# Altium integrated library ST RF Amplifier.IntLib: 11 symbols
Pins are listed as number, name and electrical type; pins without a type are passive.

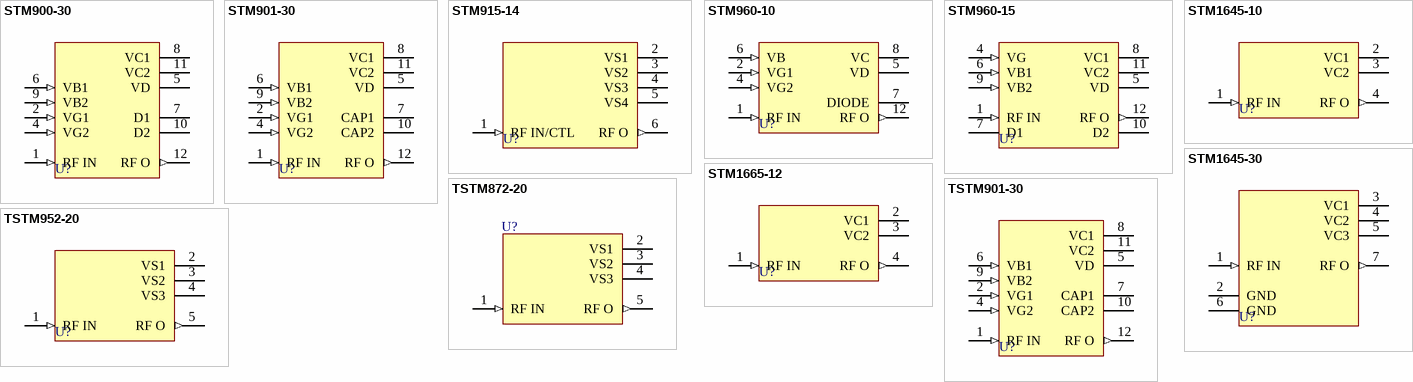
[diagram p0: symbols STM900-30 to TSTM952-20]

## STM900-30
designator U?
RF Power Module Digital Cellular Application; PackageDocument: revD; Note: Pin 3 does not exist physically; Published: 24-Aug-2001; LatestRevisionDate: 17-Jul-2002; LatestRevisionNote: Re-released for DXP Platform.; DatasheetDocument: 1995; PackageReference: H141; Publisher: Altium Limited; ComponentLink1Description: Manufacturer Link; ComponentLink1URL: http://www.st.com/
footprint H141 (Rectangular Flange Mount, Thru-Hole; 12 Leads (1 Absent); Pitch 3.81 mm)
pins: 1 RF IN (in), 2 VG1 (in), 4 VG2 (in), 5 VD (power), 6 VB1 (in), 7 D1, 8 VC1 (power), 9 VB2 (in), 10 D2, 11 VC2 (power), 12 RF O (out)

## STM901-30
designator U?
RF Power Module Linear Base Station Application; PackageDocument: revD; Note: Pin 3 does not exist physically; Published: 24-Aug-2001; LatestRevisionDate: 17-Jul-2002; LatestRevisionNote: Re-released for DXP Platform.; DatasheetDocument: Oct-1997; PackageReference: H141; Publisher: Altium Limited; ComponentLink1Description: Manufacturer Link; ComponentLink1URL: http://www.st.com/
footprint H141 (Rectangular Flange Mount, Thru-Hole; 12 Leads (1 Absent); Pitch 3.81 mm)
pins: 1 RF IN (in), 2 VG1 (in), 4 VG2 (in), 5 VD (power), 6 VB1 (in), 7 CAP1, 8 VC1 (power), 9 VB2 (in), 10 CAP2, 11 VC2 (power), 12 RF O (out)

## STM915-14
designator U?
RF Power Module GSM Mobile Application; Published: 24-Aug-2001; LatestRevisionDate: 17-Jul-2002; LatestRevisionNote: Re-released for DXP Platform.; DatasheetDocument: 1995; PackageReference: FLNGSPC6; Publisher: Altium Limited; ComponentLink1Description: Manufacturer Link; ComponentLink1URL: http://www.st.com/
footprint FLNGSPC6 (Rectangular Flange Mount, Thru-Hole; 6 Leads; Pitch 5.08 mm)
pins: 1 RF IN/CTL (in), 2 VS1 (power), 3 VS2 (power), 4 VS3 (power), 5 VS4 (power), 6 RF O (out)

## STM960-10
designator U?
RF Power Module Digital Cellular Application; Note: Pins 3, 9, 10, 11 do not exist.; Published: 24-Aug-2001; LatestRevisionDate: 17-Jul-2002; LatestRevisionNote: Re-released for DXP Platform.; DatasheetDocument: Aug-1994; PackageReference: FLNGSPC8; Publisher: Altium Limited; ComponentLink1Description: Manufacturer Link; ComponentLink1URL: http://www.st.com/
footprint FLNGSPC8 (Rectangular Flange Mount, Thru-Hole; 12 Leads (4 Absent); Pitch 3.81 mm)
pins: 1 RF IN (in), 2 VG1 (in), 4 VG2 (in), 5 VD (power), 6 VB (in), 7 DIODE, 8 VC (power), 12 RF O (out)

## STM960-15
designator U?
RF Power Module Digital Cellular Application; Note: Pins 2, 3 do not exist.; Published: 24-Aug-2001; LatestRevisionDate: 17-Jul-2002; LatestRevisionNote: Re-released for DXP Platform.; DatasheetDocument: 1995; PackageReference: FLNGSPC10; Publisher: Altium Limited; ComponentLink1Description: Manufacturer Link; ComponentLink1URL: http://www.st.com/
footprint FLNGSPC10 (Rectangular Flange Mount, Thru-Hole; 12 Leads (2 Absent); Pitch 3.81 mm)
pins: 1 RF IN (in), 4 VG (in), 5 VD (power), 6 VB1 (in), 7 D1, 8 VC1 (power), 9 VB2 (in), 10 D2, 11 VC2 (power), 12 RF O (out)

## STM1645-10
designator U?
RF Power Module Satellite Communication Application; PackageDocument: revD; Published: 24-Aug-2001; LatestRevisionDate: 17-Jul-2002; LatestRevisionNote: Re-released for DXP Platform.; DatasheetDocument: Apr-1996; PackageReference: H150; Publisher: Altium Limited; ComponentLink1Description: Manufacturer Link; ComponentLink1URL: http://www.st.com/
footprint H150 (Rectangular Flange Mount, Thru-Hole; 4 Leads; Pitch 12 mm)
pins: 1 RF IN (in), 2 VC1 (power), 3 VC2 (power), 4 RF O (out)

## STM1645-30
designator U?
RF Power Module Satellite Communication Application; PackageDocument: 1999; Published: 24-Aug-2001; LatestRevisionDate: 17-Jul-2002; LatestRevisionNote: Re-released for DXP Platform.; DatasheetDocument: Oct-1999; PackageReference: H160; Publisher: Altium Limited; ComponentLink1Description: Manufacturer Link; ComponentLink1URL: http://www.st.com/
footprint H160 (Rectangular Flange Mount, Thru-Hole; 7 Leads; Pitch 5 mm)
pins: 1 RF IN (in), 2 GND (power), 3 VC1 (power), 4 VC2 (power), 5 VC3 (power), 6 GND (power), 7 RF O (out)

## STM1665-12
designator U?
RF Power Module Satellite Communication Application; PackageDocument: revD; Published: 24-Aug-2001; LatestRevisionDate: 17-Jul-2002; LatestRevisionNote: Re-released for DXP Platform.; DatasheetDocument: 1995; PackageReference: H150; Publisher: Altium Limited; ComponentLink1Description: Manufacturer Link; ComponentLink1URL: http://www.st.com/
footprint H150 (Rectangular Flange Mount, Thru-Hole; 4 Leads; Pitch 12 mm)
pins: 1 RF IN (in), 2 VC1 (power), 3 VC2 (power), 4 RF O (out)

## TSTM872-20
designator U?
RF Power Module Mobile Application; PackageDocument: revC; Published: 24-Aug-2001; LatestRevisionDate: 17-Jul-2002; LatestRevisionNote: Re-released for DXP Platform.; DatasheetDocument: 1995; PackageReference: MOTCASEC5; Publisher: Altium Limited; ComponentLink1Description: Manufacturer Link; ComponentLink1URL: http://www.st.com/
footprint MOTCASEC5 (Rectangular Flange Mount, Thru-Hole; 5 Leads; Pitch 2.54 mm)
pins: 1 RF IN (in), 2 VS1 (power), 3 VS2 (power), 4 VS3 (power), 5 RF O (out)

## TSTM901-30
designator U?
RF Power Module Linear Base Station Application; PackageDocument: revD; Note: Pin 3 does not exist physically; Published: 24-Aug-2001; LatestRevisionDate: 17-Jul-2002; LatestRevisionNote: Re-released for DXP Platform.; DatasheetDocument: 1995; PackageReference: H141; Publisher: Altium Limited; ComponentLink1Description: Manufacturer Link; ComponentLink1URL: http://www.st.com/
footprint H141 (Rectangular Flange Mount, Thru-Hole; 12 Leads (1 Absent); Pitch 3.81 mm)
pins: 1 RF IN (in), 2 VG1 (in), 4 VG2 (in), 5 VD (power), 6 VB1 (in), 7 CAP1, 8 VC1 (power), 9 VB2 (in), 10 CAP2, 11 VC2 (power), 12 RF O (out)

## TSTM952-20
designator U?
RF Power Module Mobile Application; PackageDocument: revC; Published: 24-Aug-2001; LatestRevisionDate: 17-Jul-2002; LatestRevisionNote: Re-released for DXP Platform.; DatasheetDocument: 1995; PackageReference: MOTCASEC5; Publisher: Altium Limited; ComponentLink1Description: Manufacturer Link; ComponentLink1URL: http://www.st.com/
footprint MOTCASEC5 (Rectangular Flange Mount, Thru-Hole; 5 Leads; Pitch 2.54 mm)
pins: 1 RF IN (in), 2 VS1 (power), 3 VS2 (power), 4 VS3 (power), 5 RF O (out)